# EAGLE library part MAX11614EEET (library MAX11614EEET)
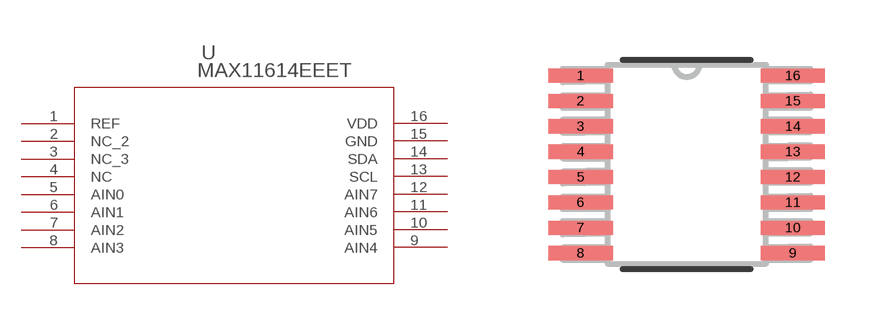
[diagram p0: symbol with the pads of 21-0055H_16; footprint 21-0055H_16]

Designator prefix U

## MAX11614EEET (Availability: Warning; Description: Analog To Digital Converter Adc, 12 Bit, 94.4ksps, Qsop-16; MF: Maxim Integrated; MP: MAX11614EEE+; Package: QSOP-16 Maxim Integrated; Price: 3.41 USD)  [21-0055H_16]
1  REF  pas
2  NC_2  pas
3  NC_3  pas
4  NC  pas
5  AIN0  in
6  AIN1  in
7  AIN2  in
8  AIN3  in
9  AIN4  in
10  AIN5  in
11  AIN6  in
12  AIN7  in
13  SCL  pas
14  SDA  pas
15  GND  pwr
16  VDD  pwr

## Footprint 21-0055H_16 (pad centres in mm)
smd 1.6 x 0.356: 1 -2.654,2.223; 2 -2.654,1.587; 3 -2.654,0.953; 4 -2.654,0.318; 5 -2.654,-0.318; 6 -2.654,-0.953; 7 -2.654,-1.587; 8 -2.654,-2.223; 9 2.654,-2.223; 10 2.654,-1.587; 11 2.654,-0.953; 12 2.654,-0.318; 13 2.654,0.318; 14 2.654,0.953; 15 2.654,1.587; 16 2.654,2.223